# EAGLE library part BM10B-NSHSS-TBT (library NSH)
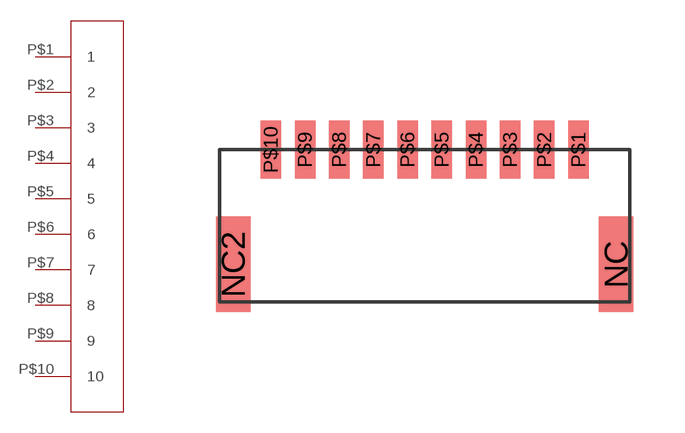
[diagram p4: symbol with the pads of BM10B-NSHSS-TBT; footprint BM10B-NSHSS-TBT]

Designator prefix -

## BM10B-NSHSS-TBT  [BM10B-NSHSS-TBT]
P$1  1
P$2  2
P$3  3
P$4  4
P$5  5
P$6  6
P$7  7
P$8  8
P$9  9
P$10  10

## Footprint BM10B-NSHSS-TBT (pad centres in mm)
smd 1 x 2.8: NC 5.6,1.4; NC2 -5.6,1.4
smd 0.6 x 1.7: P$1 4.5,4.75; P$2 3.5,4.75; P$3 2.5,4.75; P$4 1.5,4.75; P$5 0.5,4.75; P$6 -0.5,4.75; P$7 -1.5,4.75; P$8 -2.5,4.75; P$9 -3.5,4.75; P$10 -4.5,4.75